# Altium footprint library BioTempLib.PcbLib: 7 footprints
Each footprint in its own frame and in the unit in brackets; x right, y up, seen from the top. Pads: shape width x height; smd on the part's side, far side on the other; paste and mask are expansions set on the pad; w line width, h text height; cw(c..) or ccw(c..) is an arc to the next point about the centre after c.
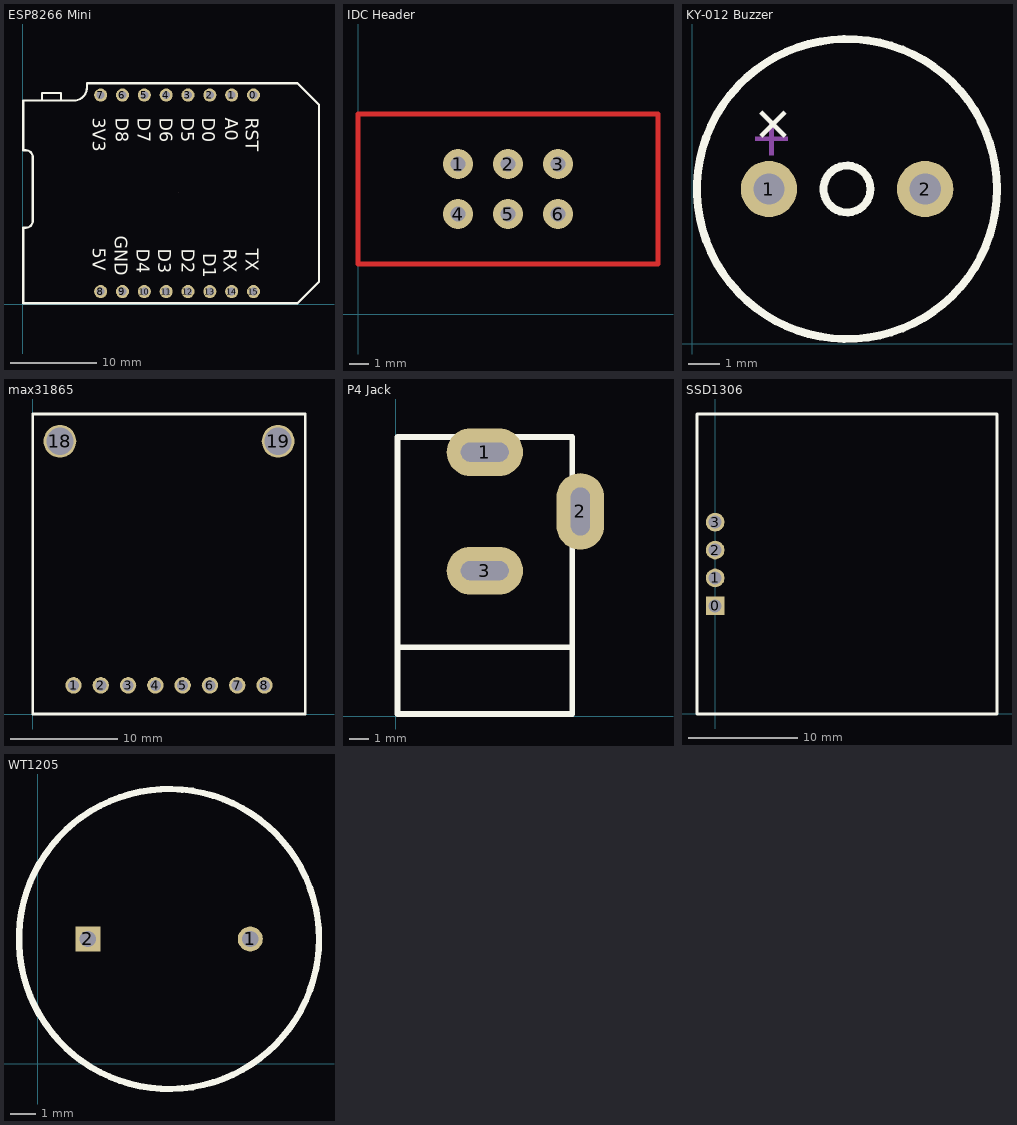
[diagram p0: the footprints below, top view; thin cyan lines are the x and y axes]

## ESP8266 Mini [mil] "ESP8266 D1 Mini Module"
pads (16):
  round 60 hole 36 paste+0 mask+2: 0(1057.87,957.09) 1(957.87,957.09) 2(857.87,957.09) 3(757.87,957.09) 4(657.87,957.09) 5(557.87,957.09) 6(457.87,957.09) 7(357.87,957.09) 8(357.87,57.09) 9(457.87,57.09) 10(557.87,57.09) 11(657.87,57.09) 12(757.87,57.09) 13(857.87,57.09) 14(957.87,57.09) 15(1057.87,57.09)
Top Overlay:
  lines w10: 3.54,3.15 1259.45,3.15 1357.87,101.57 1357.87,912.6 1259.45,1011.02 294.88,1011.02 294.88,991.34 cw(c235.83,991.34) 235.83,932.28 3.54,932.28 3.54,703.94 15.35,703.94 cw(c15.35,672.44) 46.85,672.44 46.85,381.1 cw(c15.35,381.1) 15.35,349.61 3.54,349.61 3.54,3.15 ; 89.67,932.28 175.64,932.28 175.64,966.86 89.67,966.86 89.67,932.28
  text "RST" at 1022.51,852.08 h59.05
  text "A0" at 927.51,852.09 h59.05
  text "D0" at 822.51,852.09 h59.05
  text "D5" at 727.51,852.09 h59.05
  text "D6" at 627.51,852.08 h59.05
  text "D7" at 527.51,852.09 h59.05
  text "D8" at 427.51,852.09 h59.05
  text "3V3" at 322.51,852.08 h59.05
  text "TX" at 1022.51,252.08 h59.05
  text "RX" at 922.51,252.08 h59.05
  text "D1" at 827.51,232.08 h59.05
  text "D2" at 728.35,252.09 h59.05
  text "D3" at 622.51,252.08 h59.05
  text "D4" at 523.35,252.09 h59.05
  text "GND" at 422.51,312.08 h59.05
  text "5V" at 322.51,257.09 h59.05
Mechanical 15:
  lines w0.1: 713.2,512.08 713.22,512.1

## IDC Header [mil]
pads (6):
  round 60 hole 30: 1(200,300) 2(300,300) 3(400,300) 4(200,200) 5(300,200) 6(400,200)
Top Layer:
  lines w10: 0,100 0,400 600,400 600,100 0,100

## KY-012 Buzzer [mm] "Active Buzzer KY-012"
pads (2):
  round 1.8 hole 1 paste+0 mask+0.051: 1(2.453,4.953) 2(7.453,4.953)
Top Overlay:
  circle w0.254: c4.953,4.953 r4.8
  circle w0.254: c4.953,4.953 r0.75
  text "+" at 2.472,6.114 h1.27
Mechanical 15:
  region: 2.469,6.037 2.609,6.037 2.609,7.087 2.469,7.087 2.469,7.067
  region: 2.014,6.632 2.014,6.492 3.064,6.492 3.064,6.632 3.044,6.632

## max31865 [mil] "Adafriut max31865 RTD amplifier"
pads (10):
  round 60 hole 40: 1(150,105) 2(250,105) 3(350,105) 4(450,105) 5(550,105) 6(650,105) 7(750,105) 8(850,105)
  round 120 hole 100: 18(100,1000) 19(900,1000)
Top Overlay:
  lines w10: 0,0 0,1100 1000,1100 1000,0 0,0

## P4 Jack [mm] "P4 Jack connector"
pads (3):
  oval 4x2.5 hole 1 slot 2.5 at 0 deg paste+0 mask+0.102: 1(4.652,13.83) 3(4.652,7.63)
  oval 2.5x4 hole 1 slot 2.5 at 90 deg paste+0 mask+0.102: 2(9.652,10.73)
Top Overlay:
  lines w0.3: 0.08,0.13 0.08,14.63 9.224,14.63 9.224,0.13 ; 0.102,3.63 9.202,3.63 ; 0.152,0.13 9.152,0.13

## SSD1306 [mm]
pads (4):
  rect 1.7x1.7 hole 1.2: 0(0,9.84)
  round 1.7 hole 1.2: 1(0,12.38) 2(0,14.92) 3(0,17.46)
Top Overlay:
  lines w0.254: -1.65,0 25.65,0 25.65,27.3 -1.65,27.3 -1.65,0

## WT1205 [mm] "Buzzer WT1205"
pads (2):
  round 1 hole 0.65: 1(8.5,5)
  rect 1x1 hole 0.65: 2(2,5)
Top Overlay:
  circle w0.254: c5.25,5 r6
3D body "WT-1205.step": height 9.5, standoff -3.8, extent -0.76,-0.998 11.25,10.998